# EAGLE library part TDA1517 (library #PaJa_30)
Zesilovac - 2 x 6W, 18V
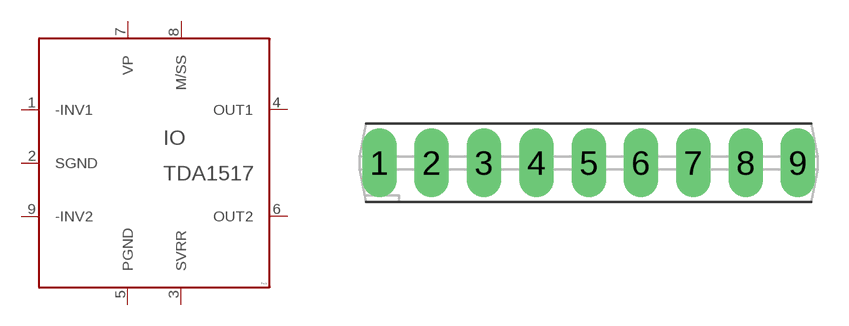
[diagram p56: symbol with the pads of TDA1517; footprint TDA1517]

Designator prefix IO

## TDA1517  [TDA1517]
1  -INV1  in
2  SGND  pwr
3  SVRR  nc
4  OUT1  out
5  PGND  pwr
6  OUT2  out
7  VP  pwr
8  M/SS  nc
9  -INV2  in

## Footprint TDA1517 (pad centres in mm)
drill 0.813 pad 1.676 long: 1 -10.16,0; 2 -7.62,0; 3 -5.08,0; 4 -2.54,0; 5 0,0; 6 2.54,0; 7 5.08,0; 8 7.62,0; 9 10.16,0